# Altium footprint library 849526.PcbLib: 1 footprints
Each footprint in its own frame and in the unit in brackets; x right, y up, seen from the top. Pads: shape width x height; smd on the part's side, far side on the other; paste and mask are expansions set on the pad; w line width, h text height; cw(c..) or ccw(c..) is an arc to the next point about the centre after c.
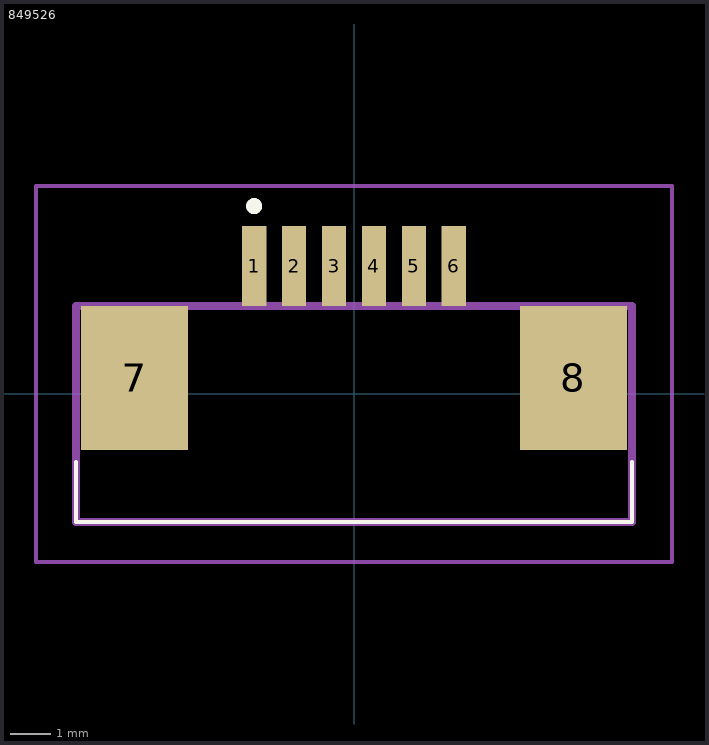
[diagram p0: the footprint, top view; thin cyan lines are the x and y axes]

## 849526 [mm]
pads (8):
  rect 0.61x2 smd: 1(-2.5,3.2) 2(-1.5,3.2) 3(-0.5,3.2) 4(0.5,3.2) 5(1.5,3.2) 6(2.5,3.2)
  rect 2.68x3.6 smd: 7(-5.49,0.4) 8(5.49,0.4)
Top Overlay:
  lines w0.1: -6.96,-1.7 -6.96,-3.2 6.96,-3.2 6.96,-1.7
  lines w0.2: -2.6,4.7 -2.6,4.7 ; -2.6,4.7 ccw(c-2.5,4.7) -2.4,4.7 ; -2.6,4.7 cw(c-2.5,4.7) -2.4,4.7 ; -2.4,4.7 -2.4,4.7
Mechanical 15:
  lines w0.2: -6.96,-3.2 6.96,-3.2 6.96,2.2 -6.96,2.2 -6.96,-3.2
Mechanical 20:
  lines w0.1: -7.96,-4.2 7.96,-4.2 7.96,5.2 -7.96,5.2 -7.96,-4.2